# EAGLE library part ATX_4P2MM (library ATX_PCB_ALIEXPRESS)
ATX connector 24 pin 4.2mm width
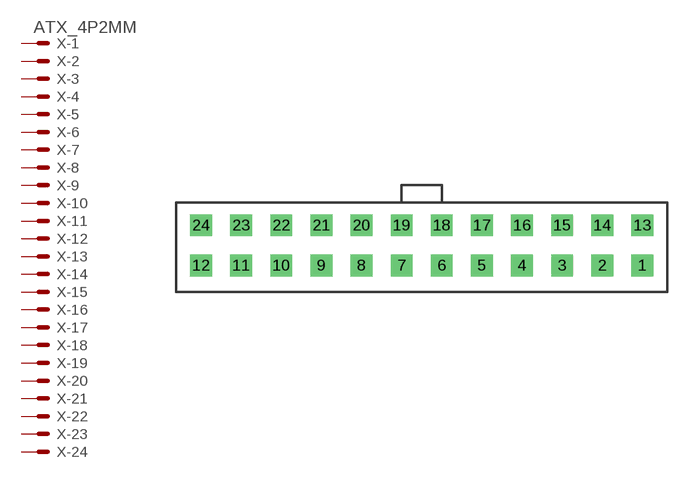
[diagram p0: symbol with the pads of ATX_4P2MM; footprint ATX_4P2MM]

Designator prefix X; gates -1=MV -2=M -3=M -4=M -5=M -6=M -7=M -8=M -9=M -10=M -11=M -12=M -13=M -14=M -15=M -16=M -17=M -18=M -19=M -20=M -21=M -22=M -23=M -24=M

## ATX_4P2MM (OC_FARNELL: unknown; OC_NEWARK: unknown)  [ATX_4P2MM]
1  -1:S  pas
2  -2:S  pas
3  -3:S  pas
4  -4:S  pas
5  -5:S  pas
6  -6:S  pas
7  -7:S  pas
8  -8:S  pas
9  -9:S  pas
10  -10:S  pas
11  -11:S  pas
12  -12:S  pas
13  -13:S  pas
14  -14:S  pas
15  -15:S  pas
16  -16:S  pas
17  -17:S  pas
18  -18:S  pas
19  -19:S  pas
20  -20:S  pas
21  -21:S  pas
22  -22:S  pas
23  -23:S  pas
24  -24:S  pas

## Footprint ATX_4P2MM (pad centres in mm)
ATX Header, 4.20mm Pitch, 4.20mm Holes, Dual Row, 24 Circuits; https://www.aliexpress.com/item/5pcs-Motherboard-ATX-4-2-mm-24-pin-Male-Header-Pins-24-Position-Mainboard-CPU-Power/32852790774.html
drill 1.524 square: 1 23.1,-2.1; 2 18.9,-2.1; 3 14.7,-2.1; 4 10.5,-2.1; 5 6.3,-2.1; 6 2.1,-2.1; 7 -2.1,-2.1; 8 -6.3,-2.1; 9 -10.5,-2.1; 10 -14.7,-2.1; 11 -18.9,-2.1; 12 -23.1,-2.1; 13 23.1,2.1; 14 18.9,2.1; 15 14.7,2.1; 16 10.5,2.1; 17 6.3,2.1; 18 2.1,2.1; 19 -2.1,2.1; 20 -6.3,2.1; 21 -10.5,2.1; 22 -14.7,2.1; 23 -18.9,2.1; 24 -23.1,2.1